# Altium footprint library Connectors.PcbLib: 66 footprints (part 3 of 5)
Each footprint in its own frame and in the unit in brackets; x right, y up, seen from the top. Pads: shape width x height; smd on the part's side, far side on the other; paste and mask are expansions set on the pad; w line width, h text height; cw(c..) or ccw(c..) is an arc to the next point about the centre after c.
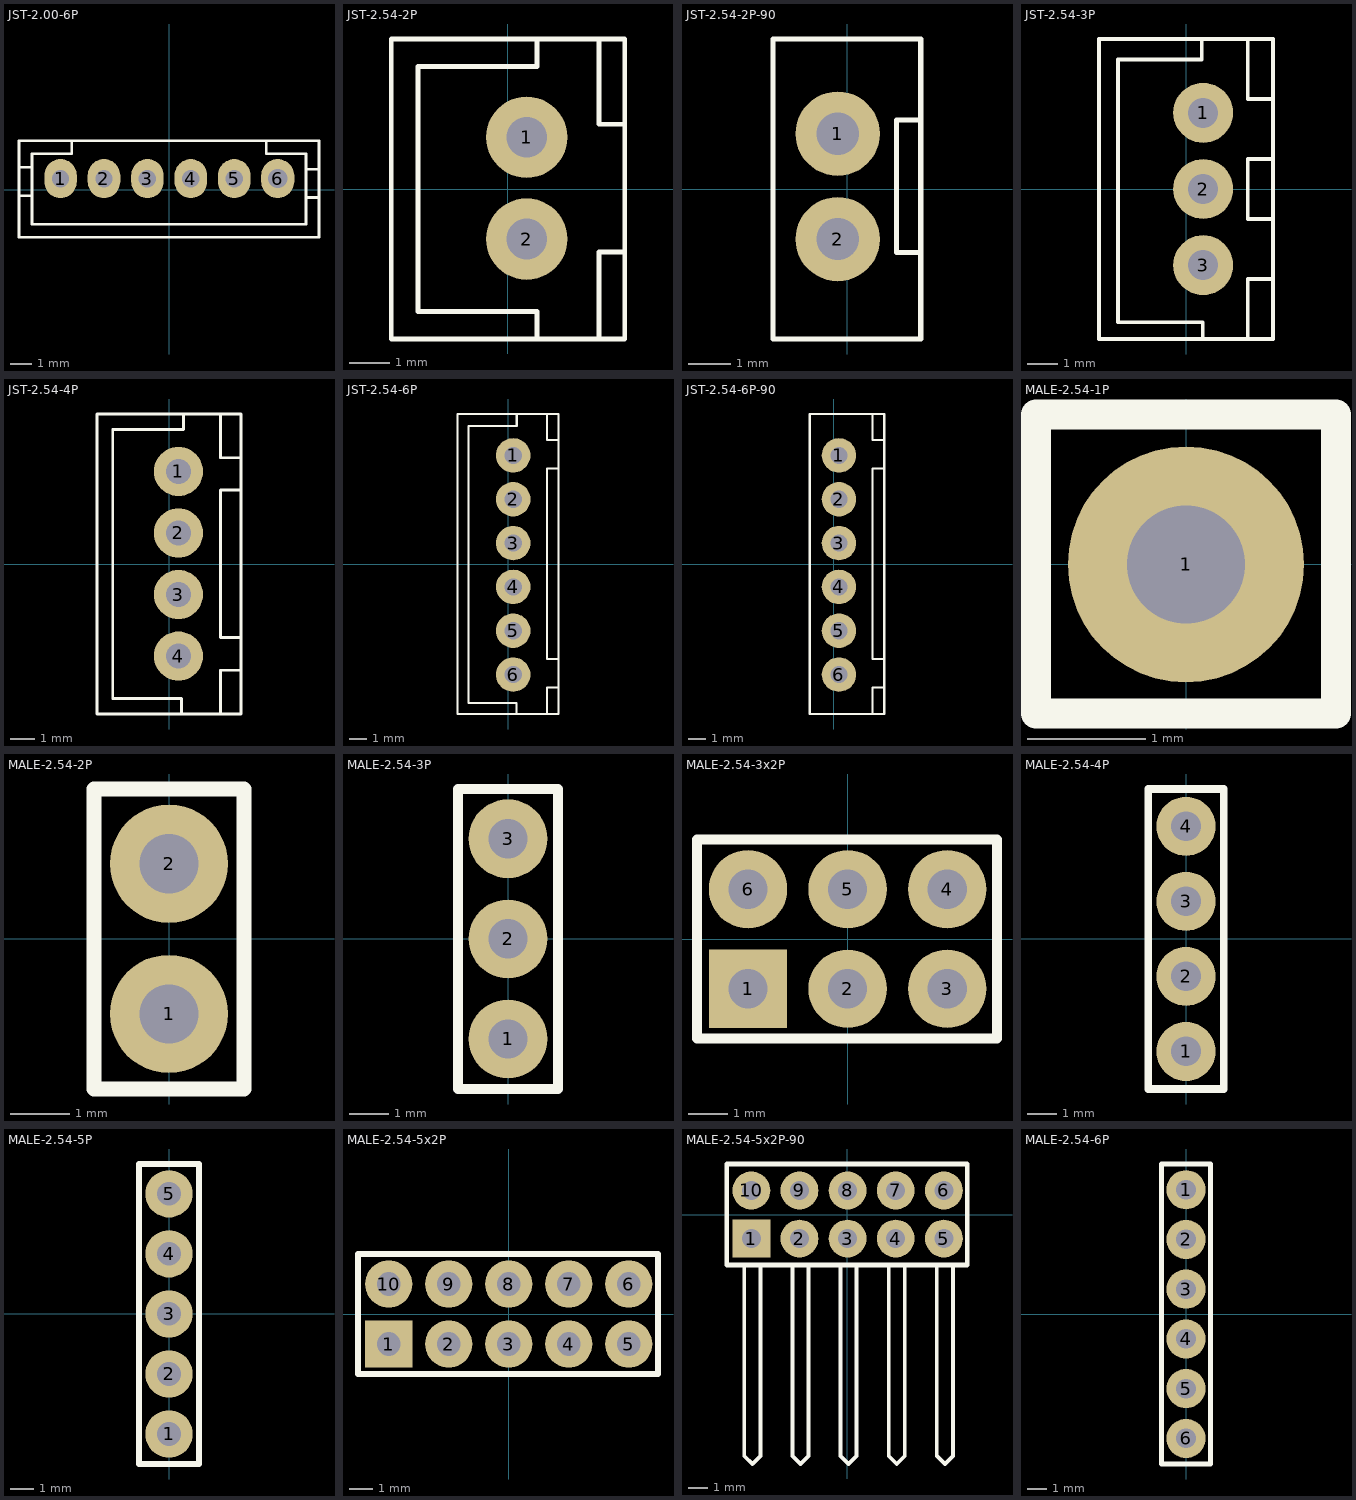
[diagram p2: the footprints below, top view; thin cyan lines are the x and y axes]

## JST-2.00-6P [mm]
pads (6):
  oval 1.5x1.8 hole 0.8 paste-2539.97 mask+0.051: 1(-5,0.508) 2(-3,0.508) 3(-1,0.508) 4(1,0.508) 5(3,0.508)
  oval 1.524x1.8 hole 0.88 paste-2539.97 mask+0.051: 6(5,0.508)
Top Overlay:
  lines w0.12: -6.914,-0.276 -6.314,-0.276 ; -6.914,1.024 -6.314,1.024 ; -4.49,2.25 -4.49,1.65 -6.314,1.65 -6.314,-1.595 6.302,-1.595 6.302,1.65 4.478,1.65 4.478,2.25 ; 6.302,-0.365 6.902,-0.365 ; 6.302,0.935 6.902,0.935 ; -6.914,-2.195 -6.914,2.25 6.902,2.25 6.902,-2.195 -6.914,-2.195
3D body "JST-2.00-6P.stp": height 6.1, standoff -3.3, extent -6.941,-2.242 6.959,2.258

## JST-2.54-2P [mm]
pads (2):
  round 2 hole 1: 1(0.459,1.27) 2(0.459,-1.23)
Top Overlay:
  lines w0.12: 0.707,-3.683 0.707,-3.007 -2.214,-3.007 -2.214,3.007 0.707,3.007 0.707,3.683 ; 2.231,-3.683 2.231,-1.55 2.809,-1.55 ; 2.231,3.683 2.231,1.59 2.809,1.59 ; -2.866,-3.683 2.866,-3.683 2.866,3.683 -2.866,3.683 -2.866,-3.683
3D body "JST-2.54-2P.step": height 7.05, standoff -3.35, extent -2.866,-3.683 2.884,3.717

## JST-2.54-2P-90 [mm]
pads (2):
  round 2 hole 1: 1(-0.221,1.311) 2(-0.221,-1.189)
Top Overlay:
  lines w0.12: 1.748,-3.556 1.748,3.556 ; 1.748,-1.509 1.171,-1.509 1.171,1.631 1.748,1.631 ; 1.75,-3.556 -1.75,-3.556 -1.75,3.556 1.75,3.556
3D body "JST-2.54-2P-90.stp": height 5.94, standoff -3.28, extent -0.602,-3.607 7.435,3.607

## JST-2.54-3P [mm]
pads (3):
  round 2 hole 1: 1(0.573,2.54) 2(0.573,0) 3(0.573,-2.54)
Top Overlay:
  lines w0.12: 0.529,4.951 0.529,4.316 -2.265,4.316 -2.265,-4.447 0.557,-4.447 0.557,-5 ; 2.057,-4.951 2.057,-3 2.9,-3 2.9,-1 ; 2.057,4.947 2.057,3 2.9,3 ; 2.9,-1 2.057,-1 2.057,1 2.9,1 ; 2.9,1 2.9,3 ; -2.9,-5 2.9,-5 2.9,5 -2.9,5 -2.9,-5
3D body "JST-2.54-3P.step": height 7.02, standoff -3.38, extent -2.85,-4.95 2.9,4.95

## JST-2.54-4P [mm]
pads (4):
  round 2 hole 1: 1(0.385,3.76) 2(0.385,1.26) 3(0.385,-1.24) 4(0.385,-3.74)
Top Overlay:
  lines w0.12: 0.508,-6.096 0.508,-5.461 -2.286,-5.461 -2.286,-0.577 -2.286,5.461 0.585,5.461 0.585,6.096 ; 2.835,-6.096 2.085,-6.096 2.085,-4.318 2.835,-4.318 ; 2.835,-2.99 2.085,-2.99 2.085,3.01 2.835,3.01 ; 2.835,4.318 2.085,4.318 2.085,6.096 2.835,6.096 ; 2.921,-4.318 2.921,-6.096 ; 2.921,-2.99 2.921,3.01 ; 2.921,4.318 2.921,6.096 ; 2.921,-6.096 2.921,6.096 ; 2.921,-6.096 -2.921,-6.096 -2.921,6.096 2.921,6.096
3D body "JST-2.54-4P.step": height 7.21, standoff -3, extent -2.921,-6.087 2.921,6.087

## JST-2.54-6P [mm]
pads (6):
  round 2 hole 1: 1(0.298,6.293) 2(0.298,3.753) 3(0.298,1.213) 4(0.298,-1.327) 5(0.298,-3.867) 6(0.298,-6.407)
Top Overlay:
  lines w0.12: 0.504,-8.683 0.504,-8.048 -2.29,-8.048 -2.29,8.007 0.508,8.007 0.508,8.642 ; 2.252,-8.659 2.252,-7.169 2.921,-7.169 ; 2.252,8.672 2.252,7.182 2.921,7.182 ; 2.921,-5.518 2.252,-5.518 2.252,5.531 2.921,5.531 ; -2.921,-8.693 2.921,-8.693 2.921,8.693 -2.921,8.693 -2.921,-8.693
3D body "JST-2.54-6P.step": height 7.23, standoff -2.98, extent -2.972,-8.731 2.87,8.643

## JST-2.54-6P-90 [mm]
pads (6):
  round 2 hole 1: 1(0.298,6.293) 2(0.298,3.753) 3(0.298,1.213) 4(0.298,-1.327) 5(0.298,-3.867) 6(0.298,-6.407)
Top Overlay:
  lines w0.12: 2.252,-8.659 2.252,-7.169 2.921,-7.169 ; 2.252,8.672 2.252,7.182 2.921,7.182 ; 2.921,-5.518 2.252,-5.518 2.252,5.531 2.921,5.531 ; -1.397,-8.693 -1.397,8.693 2.921,8.693 2.921,-8.693 -1.397,-8.693
3D body "JST-2.54-6P-90.stp": height 5.84, standoff -3.38, extent 0.005,-8.687 8.042,8.687

## MALE-2.54-1P [mm]
pads (1):
  round 2 hole 1: 1(0,0)
Top Overlay:
  lines w0.254: -1.27,-1.263 1.27,-1.263 1.27,1.27 -1.27,1.27 -1.27,-1.263
3D body "MALE-2.54-1P.STEP": height 8.3, standoff -2.8, extent -1.341,-1.192 1.199,1.208

## MALE-2.54-2P [mm]
pads (2):
  round 2 hole 1: 1(0,-1.27) 2(0,1.27)
Top Overlay:
  lines w0.254: -1.27,-2.54 1.27,-2.54 1.27,2.533 -1.27,2.533 -1.27,-2.54
3D body "MALE-2.54-2P.STEP": height 8.89, standoff -3.05, extent -1.333,-2.547 1.206,2.533

## MALE-2.54-3P [mm]
pads (3):
  round 2 hole 1: 1(0,-2.54) 2(0,0) 3(0,2.54)
Top Overlay:
  lines w0.254: -1.27,-3.81 1.27,-3.81 1.27,3.803 -1.27,3.803 -1.27,-3.81
3D body "MALE-2.54-3P.STEP": height 8.36, standoff -2.74, extent -1.193,-3.817 1.206,3.803

## MALE-2.54-3x2P [mm]
pads (6):
  rect 2x2 hole 1: 1(-2.54,-1.27)
  round 2 hole 1: 2(0,-1.27) 3(2.54,-1.27) 4(2.54,1.27) 5(0,1.27) 6(-2.54,1.27)
Top Overlay:
  lines w0.254: -3.841,-2.54 -3.841,2.54 3.81,2.54 3.81,-2.54 -3.841,-2.54
3D body "MALE-2.54-3X2P.STEP": height 10.54, standoff -3, extent -3.75,-2.54 3.75,2.545

## MALE-2.54-4P [mm]
pads (4):
  round 2 hole 1: 1(0,-3.81) 2(0,-1.27) 3(0,1.27) 4(0,3.81)
Top Overlay:
  lines w0.254: -1.27,-5.08 -1.27,5.073 1.27,5.073 1.27,-5.08 -1.27,-5.08
3D body "MALE-2.54-4P.STEP": height 8.36, standoff -2.74, extent -1.206,-5.087 1.193,5.073

## MALE-2.54-5P [mm]
pads (5):
  round 2 hole 1: 1(0,-5.08) 2(0,-2.54) 3(0,0) 4(0,2.54) 5(0,5.08)
Top Overlay:
  lines w0.254: -1.27,-6.35 1.27,-6.35 1.27,6.343 -1.27,6.343 -1.27,-6.35
3D body "MALE-2.54-5P.step": height 8.89, standoff -3.05, extent -1.333,-6.357 1.206,6.343

## MALE-2.54-5x2P [mm]
pads (10):
  rect 2x2 hole 1: 1(-5.08,-1.27)
  round 2 hole 1: 2(-2.54,-1.27) 3(0,-1.27) 4(2.54,-1.27) 5(5.08,-1.27) 6(5.08,1.27) 7(2.54,1.27) 8(0,1.27) 9(-2.54,1.27) 10(-5.08,1.27)
Top Overlay:
  lines w0.254: -6.381,-2.54 6.319,-2.54 6.319,2.54 -6.381,2.54 -6.381,-2.54
3D body "MALE-2.54-5x2P.step": height 8.11, standoff -3.14, extent -6.381,-2.41 6.319,2.41

## MALE-2.54-5x2P-90 [mm]
pads (10):
  rect 2x2 hole 1: 1(-5.049,-1.27)
  round 2 hole 1: 2(-2.509,-1.27) 3(0.031,-1.27) 4(2.571,-1.27) 5(5.111,-1.27) 6(5.111,1.27) 7(2.571,1.27) 8(0.031,1.27) 9(-2.509,1.27) 10(-5.049,1.27)
Top Overlay:
  lines w0.2: -5.419,-2.667 -5.419,-12.742 -4.995,-13.166 -4.572,-12.742 -4.572,-2.667 ; -2.879,-2.667 -2.879,-12.742 -2.455,-13.166 -2.032,-12.742 -2.032,-2.667 ; -0.339,-2.667 -0.339,-12.742 0.085,-13.166 0.508,-12.742 0.508,-2.667 ; 2.201,-2.667 2.201,-12.742 2.625,-13.166 3.048,-12.742 3.048,-2.667 ; 4.741,-2.667 4.741,-12.742 5.165,-13.166 5.588,-12.742 5.588,-2.667
  lines w0.254: -6.35,-2.667 -6.35,2.667 6.35,2.667 6.35,-2.667 -6.35,-2.667
3D body "MALE-2.54-5x2P_90.STEP": height 5, standoff -3, extent -6.355,-13.249 6.35,1.651

## MALE-2.54-6P [mm]
pads (6):
  round 2 hole 1: 1(0,6.35) 2(0,3.81) 3(0,1.27) 4(0,-1.27) 5(0,-3.81) 6(0,-6.35)
Top Overlay:
  lines w0.254: -1.25,-7.658 1.25,-7.658 1.25,7.662 -1.25,7.662 -1.25,-7.658
3D body "MALE-2.54-6P.STEP": height 8.36, standoff -2.74, extent -1.223,-7.658 1.177,7.582